# Altium schematic symbol library Connector-SimCard.SchLib: 1 symbol
Pins are listed as number, name and electrical type; pins without a type are passive.

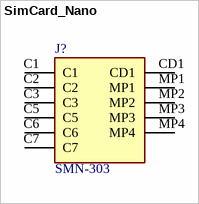
[diagram p0: symbol SimCard_Nano]

## SimCard_Nano
designator J?, comment SMN-303
NANO SIM卡座; Manufacturer_Part_Number: SMN-303; Manufacturer_Name: *
footprint SimCard_SMN-303 (Nano SIM 自弹)
pins: C1, C2, C3, C5, C6, C7, CD1, MP1, MP2, MP3, MP4